# EAGLE library part AD737KRZ-R7 (library AD737KRZ-R7)
Low Cost, Low Power, True RMS-to-DC Converter Source: Datasheet <https://componentsearchengine.com/Datasheets/1/AD737KRZ-R7.pdf>
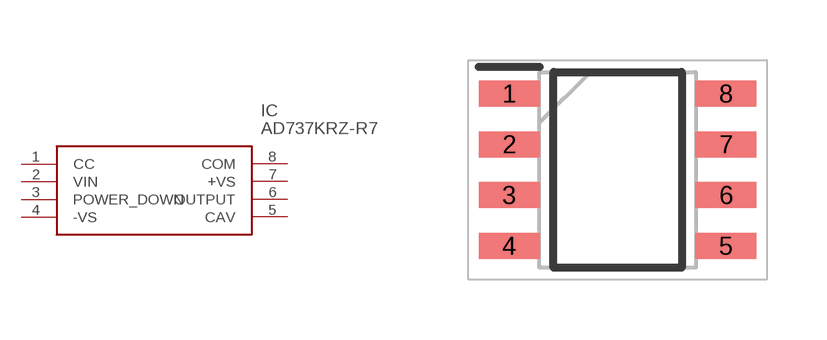
[diagram p0: symbol with the pads of SOIC127P600X175-8N; footprint SOIC127P600X175-8N]

Designator prefix IC

## AD737KRZ-R7 (Description: Low Cost, Low Power, True RMS-to-DC Converter; Height: 1.75mm; Manufacturer_Name: Analog Devices; Manufacturer_Part_Number: AD737KRZ-R7; Mouser_Part_Number: 584-AD737KRZ-R7; Mouser_Price-Stock: https://www.mouser.com/Search/Refine.aspx?Keyword=584-AD737KRZ-R7)  [SOIC127P600X175-8N]
1  CC
2  VIN
3  POWER_DOWN
4  -VS
5  CAV
6  OUTPUT
7  +VS
8  COM

## Footprint SOIC127P600X175-8N (pad centres in mm)
R-8 (SOIC)
smd 1.525 x 0.65: 1 -2.712,1.905; 2 -2.712,0.635; 3 -2.712,-0.635; 4 -2.712,-1.905; 5 2.712,-1.905; 6 2.712,-0.635; 7 2.712,0.635; 8 2.712,1.905